# EAGLE library part AE-SCP1000 (library mita-akiba)
VTI Technology Absolute Pressure Sensor VCC: 2.4-3.3V Range: 40kPa-120kPa Interface: SPI
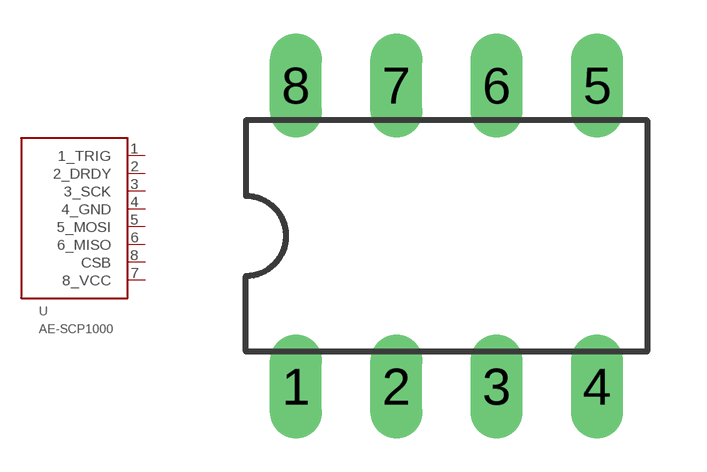
[diagram p49: symbol with the pads of DIL08; footprint DIL08]

Designator prefix -

## AE-SCP1000  [DIL08]
1  1_TRIG
2  2_DRDY
3  3_SCK
4  4_GND
5  5_MOSI
6  6_MISO
7  8_VCC
8  CSB

## Footprint DIL08 (pad centres in mm)
Dual In Line Package
drill 0.813 long: 1 -3.81,-3.81; 2 -1.27,-3.81; 3 1.27,-3.81; 4 3.81,-3.81; 5 3.81,3.81; 6 1.27,3.81; 7 -1.27,3.81; 8 -3.81,3.81